# EAGLE library part LT1006 (library Oles komponentbibliotek)
Single-supply operational amplifier.
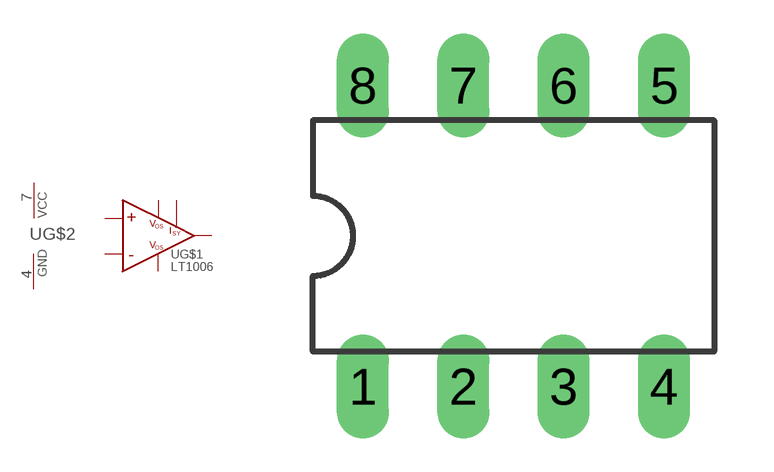
[diagram p49: symbol with the pads of DIL08; footprint DIL08]

Designator prefix -; gates G$1=LT1006 G$2=PWRN

## LT1006  [DIL08]
1  G$1:VOS-  in
2  G$1:-  in
3  G$1:+  in
4  G$2:GND  pwr
5  G$1:VOS+  in
6  G$1:VO  out
7  G$2:VCC  pwr
8  G$1:ISY  in

## Footprint DIL08 (pad centres in mm)
Dual In Line Package
drill 0.813 long: 1 -3.81,-3.81; 2 -1.27,-3.81; 3 1.27,-3.81; 4 3.81,-3.81; 5 3.81,3.81; 6 1.27,3.81; 7 -1.27,3.81; 8 -3.81,3.81